# Altium schematic symbol library IPZ40N04S5L-4R8.SchLib: 1 symbol
Pins are listed as number, name and electrical type; pins without a type are passive.

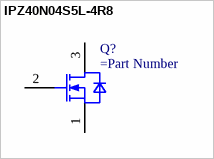
[diagram p0: symbol IPZ40N04S5L-4R8]

## IPZ40N04S5L-4R8
designator Q?
pins: 1 SOURCE, 2 GATE, 3 DRAIN